# Altium footprint library Resistors.PcbLib: 1 footprints
Each footprint in its own frame and in the unit in brackets; x right, y up, seen from the top. Pads: shape width x height; smd on the part's side, far side on the other; paste and mask are expansions set on the pad; w line width, h text height; cw(c..) or ccw(c..) is an arc to the next point about the centre after c.
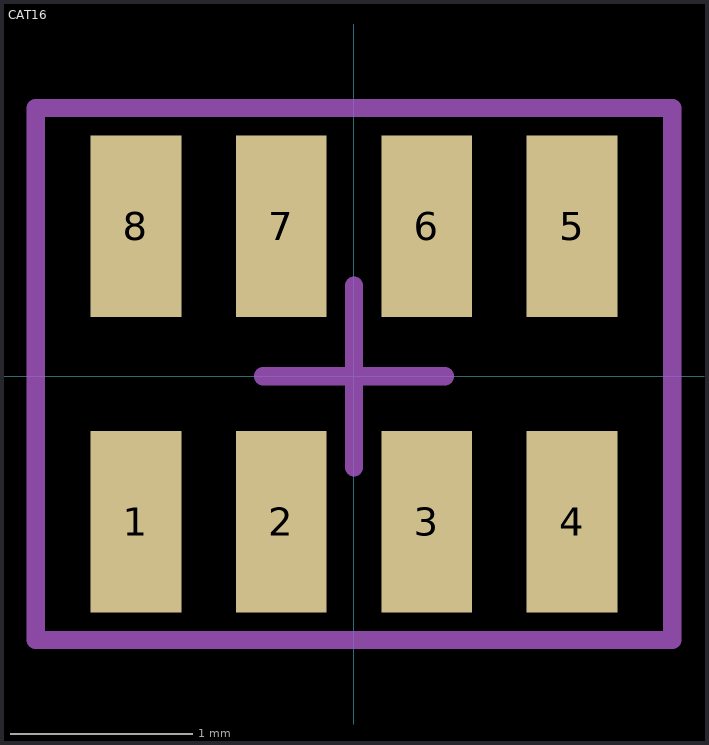
[diagram p0: the footprint, top view; thin cyan lines are the x and y axes]

## CAT16 [mm]
pads (8):
  rect 0.5x1 smd: 1(-1.2,-0.8) 2(-0.4,-0.8) 3(0.4,-0.8) 4(1.2,-0.8) 5(1.2,0.825) 6(0.4,0.825) 7(-0.4,0.825) 8(-1.2,0.825)
Mechanical 15:
  lines w0.1: -0.5,0 0.5,0 ; 0,-0.5 0,0.5 ; -1.75,-1.45 -1.75,1.475 1.75,1.475 1.75,-1.45 -1.75,-1.45
3D body: height 0.5, standoff 0.4, extent -1.75,-0.5 1.75,0.45
3D body: height 0.4, standoff 0, extent -1.75,-0.8 1.75,0.75